# EAGLE library part DRIVER_RS485 (library robo_ag)
RS485-Treiber Reichelt: SN 75176BP 5V
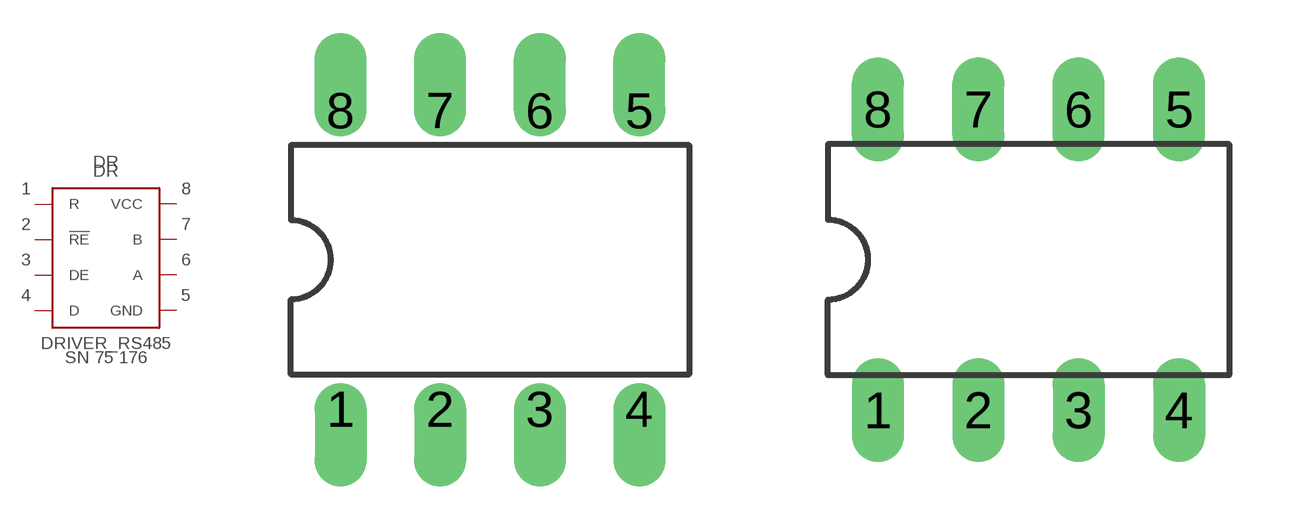
[diagram p7: symbol with the pads of IC_DIL08_OUT; footprints IC_DIL08_OUT, IC_DIL08]

Designator prefix DR

## DRIVER_RS485-OUT  [IC_DIL08_OUT]
1  R  out
2  !RE  in
3  DE  in
4  D  in
5  GND  pwr
6  A
7  B
8  VCC  pwr

## DRIVER_RS485  [IC_DIL08]
Pads as for IC_DIL08_OUT

## DRIVER_RS485-IN  [IC_DIL08_IN]
Pads as for IC_DIL08_OUT

## Footprint IC_DIL08_OUT (pad centres in mm)
Dual In Line Package
drill 0.813 offset: 1 -3.81,-3.81; 2 -1.27,-3.81; 3 1.27,-3.81; 4 3.81,-3.81; 5 3.81,3.81; 6 1.27,3.81; 7 -1.27,3.81; 8 -3.81,3.81

## Footprint IC_DIL08 (pad centres in mm)
Dual In Line Package
drill 0.813 long: 1 -3.81,-3.81; 2 -1.27,-3.81; 3 1.27,-3.81; 4 3.81,-3.81; 5 3.81,3.81; 6 1.27,3.81; 7 -1.27,3.81; 8 -3.81,3.81

## Footprint IC_DIL08_IN (pad centres in mm)
Dual In Line Package
drill 0.813 offset: 1 -3.81,-3.81; 2 -1.27,-3.81; 3 1.27,-3.81; 4 3.81,-3.81; 5 3.81,3.81; 6 1.27,3.81; 7 -1.27,3.81; 8 -3.81,3.81